# Altium footprint library GPTS203211B.PcbLib: 1 footprints
Each footprint in its own frame and in the unit in brackets; x right, y up, seen from the top. Pads: shape width x height; smd on the part's side, far side on the other; paste and mask are expansions set on the pad; w line width, h text height; cw(c..) or ccw(c..) is an arc to the next point about the centre after c.
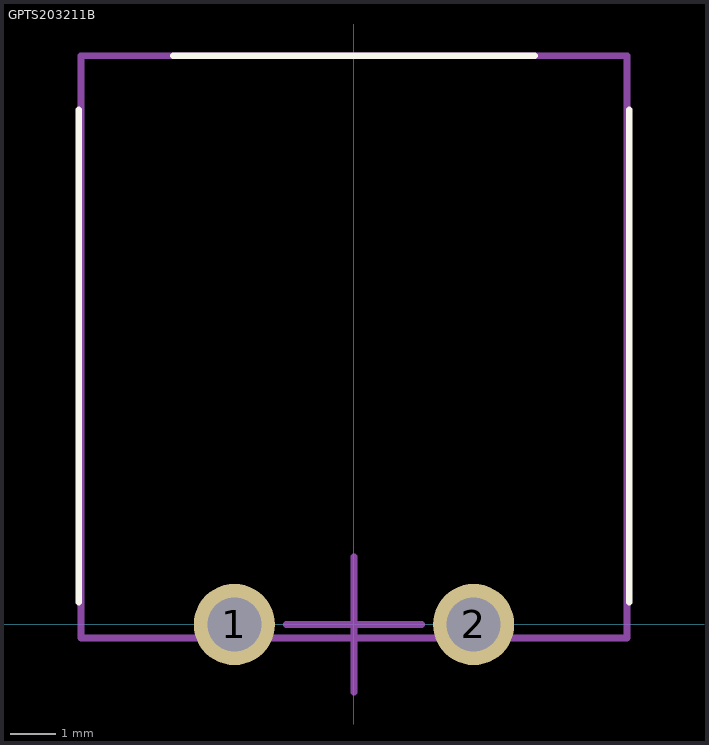
[diagram p0: the footprint, top view; thin cyan lines are the x and y axes]

## GPTS203211B [mm]
pads (2):
  round 1.8 hole 1.2 mask+0: 1(-2.65,0) 2(2.65,0)
Top Overlay:
  lines w0.15: -6.1,0.5 -6.1,11.4 ; -4,12.6 4,12.6 ; 6.1,0.5 6.1,11.4
Mechanical 13:
  lines w0.15: -6.05,-0.3 -6.05,12.6 6.05,12.6 6.05,-0.3 -6.05,-0.3
Mechanical 15:
  lines w0.15: -1.5,0 0,0 ; 0,-1.5 0,0 ; 0,1.5 0,0 ; 1.5,0 0,0
3D body "GPTS203211B.step": height 9.1, standoff -2.2, extent -6,-0.3 6,12.6